# EAGLE library part 110-41-308-41-001000 (library IMMERSE)
IC & Component Sockets 8 PIN SKT 200u Sn Source: Datasheet <https://www.arrow.com/en/products/110-41-308-41-001000/mill-max>
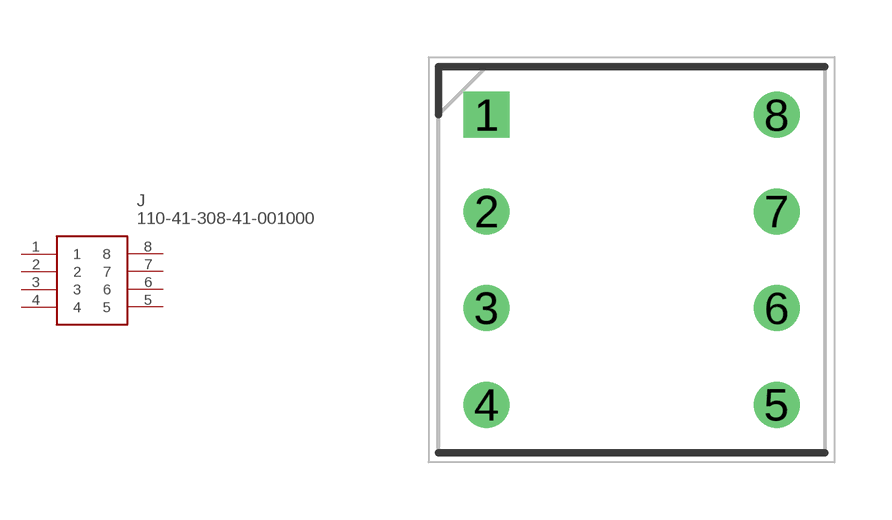
[diagram p0: symbol with the pads of DIPS762W51P254L1016H419Q8N; footprint DIPS762W51P254L1016H419Q8N]

Designator prefix J

## 110-41-308-41-001000 (DESCRIPTION: IC & Component Sockets 8 PIN SKT 200u Sn; HEIGHT: 4.19mm; MANUFACTURER_NAME: Mill-Max; MANUFACTURER_PART_NUMBER: 110-41-308-41-001000; MOUSER_PART_NUMBER: 575-11041308410010; MOUSER_PRICE-STOCK: https://www.mouser.co.uk/ProductDetail/Mill-Max/110-41-308-41-001000?qs=dvxwXVM4mZVj1CY1TePuww%3D%3D)  [DIPS762W51P254L1016H419Q8N]
1  1
2  2
3  3
4  4
5  5
6  6
7  7
8  8

## Footprint DIPS762W51P254L1016H419Q8N (pad centres in mm)
110-41-308-41-001000
drill 0.7 pad 1.1 square: 1 0,0
drill 0.7 pad 1.1: 2 0,-2.54; 3 0,-5.08; 4 0,-7.62; 5 7.62,-7.62; 6 7.62,-5.08; 7 7.62,-2.54; 8 7.62,0